# EAGLE library part 39-30-1060 (library SamacSys_Parts)
6 way r/a PCB header w/peg,Mini-Fit Jr Molex MINI-FIT JR. Series, Series Number 5569, 4.2mm Pitch 6 Way 2 Row Shrouded Right Angle PCB Header, Through Hole Source: Datasheet <https://www.molex.com/pdm_docs/sd/039300020_sd.pdf>
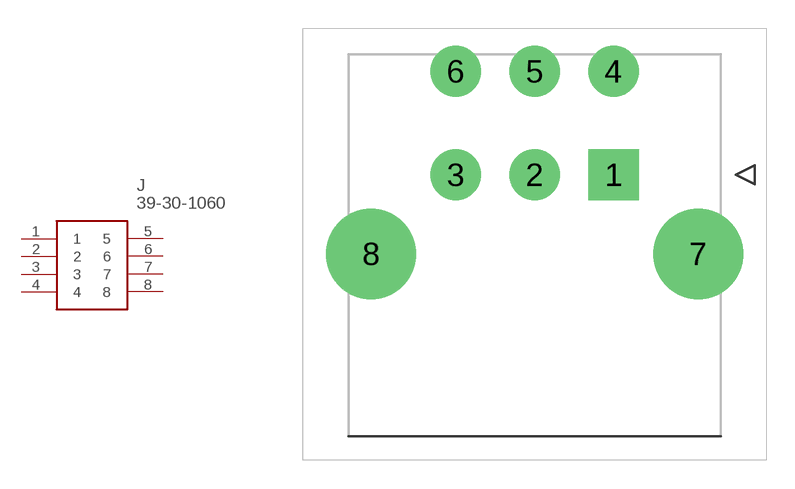
[diagram p189: symbol with the pads of 39-30-106Y; footprint 39-30-106Y]

Designator prefix J

## 39-30-1060 (DESCRIPTION: 6 way r/a PCB header w/peg,Mini-Fit Jr Molex MINI-FIT JR. Series, Series Number 5569, 4.2mm Pitch 6 Way 2 Row Shrouded Right Angle PCB Header, Through Hole; HEIGHT: 10mm; MANUFACTURER_NAME: Molex; MANUFACTURER_PART_NUMBER: 39-30-1060; MOUSER_PART_NUMBER: 538-39-30-1060; MOUSER_PRICE-STOCK: https://www.mouser.co.uk/ProductDetail/Molex/39-30-1060?qs=tRPrwvvr%2FujbUr18ehTIWQ%3D%3D)  [39-30-106Y]
1  1
2  2
3  3
4  4
5  5
6  6
7  7
8  8

## Footprint 39-30-106Y (pad centres in mm)
39-30-106Y
drill 1.8 pad 2.15 square: 1 0,0
drill 1.8 pad 2.15: 2 -4.2,0; 3 -8.4,0; 4 0,5.5; 5 -4.2,5.5; 6 -8.4,5.5
drill 3.2 pad 4.8: 7 4.5,-4.2; 8 -12.9,-4.2